# EAGLE library part MBT3906DW1T1G (library STM32F030RCT6TR)
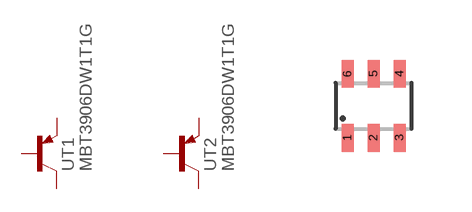
[diagram p2: symbol with the pads of SOT363-INFINION; footprint SOT363-INFINION]

Designator prefix -; gates T1=PNP T2=PNP

## MBT3906DW1T1G  [SOT363-INFINION]
1  T1:E  pas
2  T1:B  pas
3  T2:C  pas
4  T2:E  pas
5  T2:B  pas
6  T1:C  pas

## Footprint SOT363-INFINION (pad centres in mm)
SOT363 Source: Infineon-BCR22PN-DS-v01_01-en.pdf
smd 0.3 x 0.7: 1 -0.65,-0.8; 2 0,-0.8; 3 0.65,-0.8; 4 0.65,0.8; 5 0,0.8; 6 -0.65,0.8